# Altium schematic symbol library 排针排座.SchLib: 343 symbols (part 2 of 2)
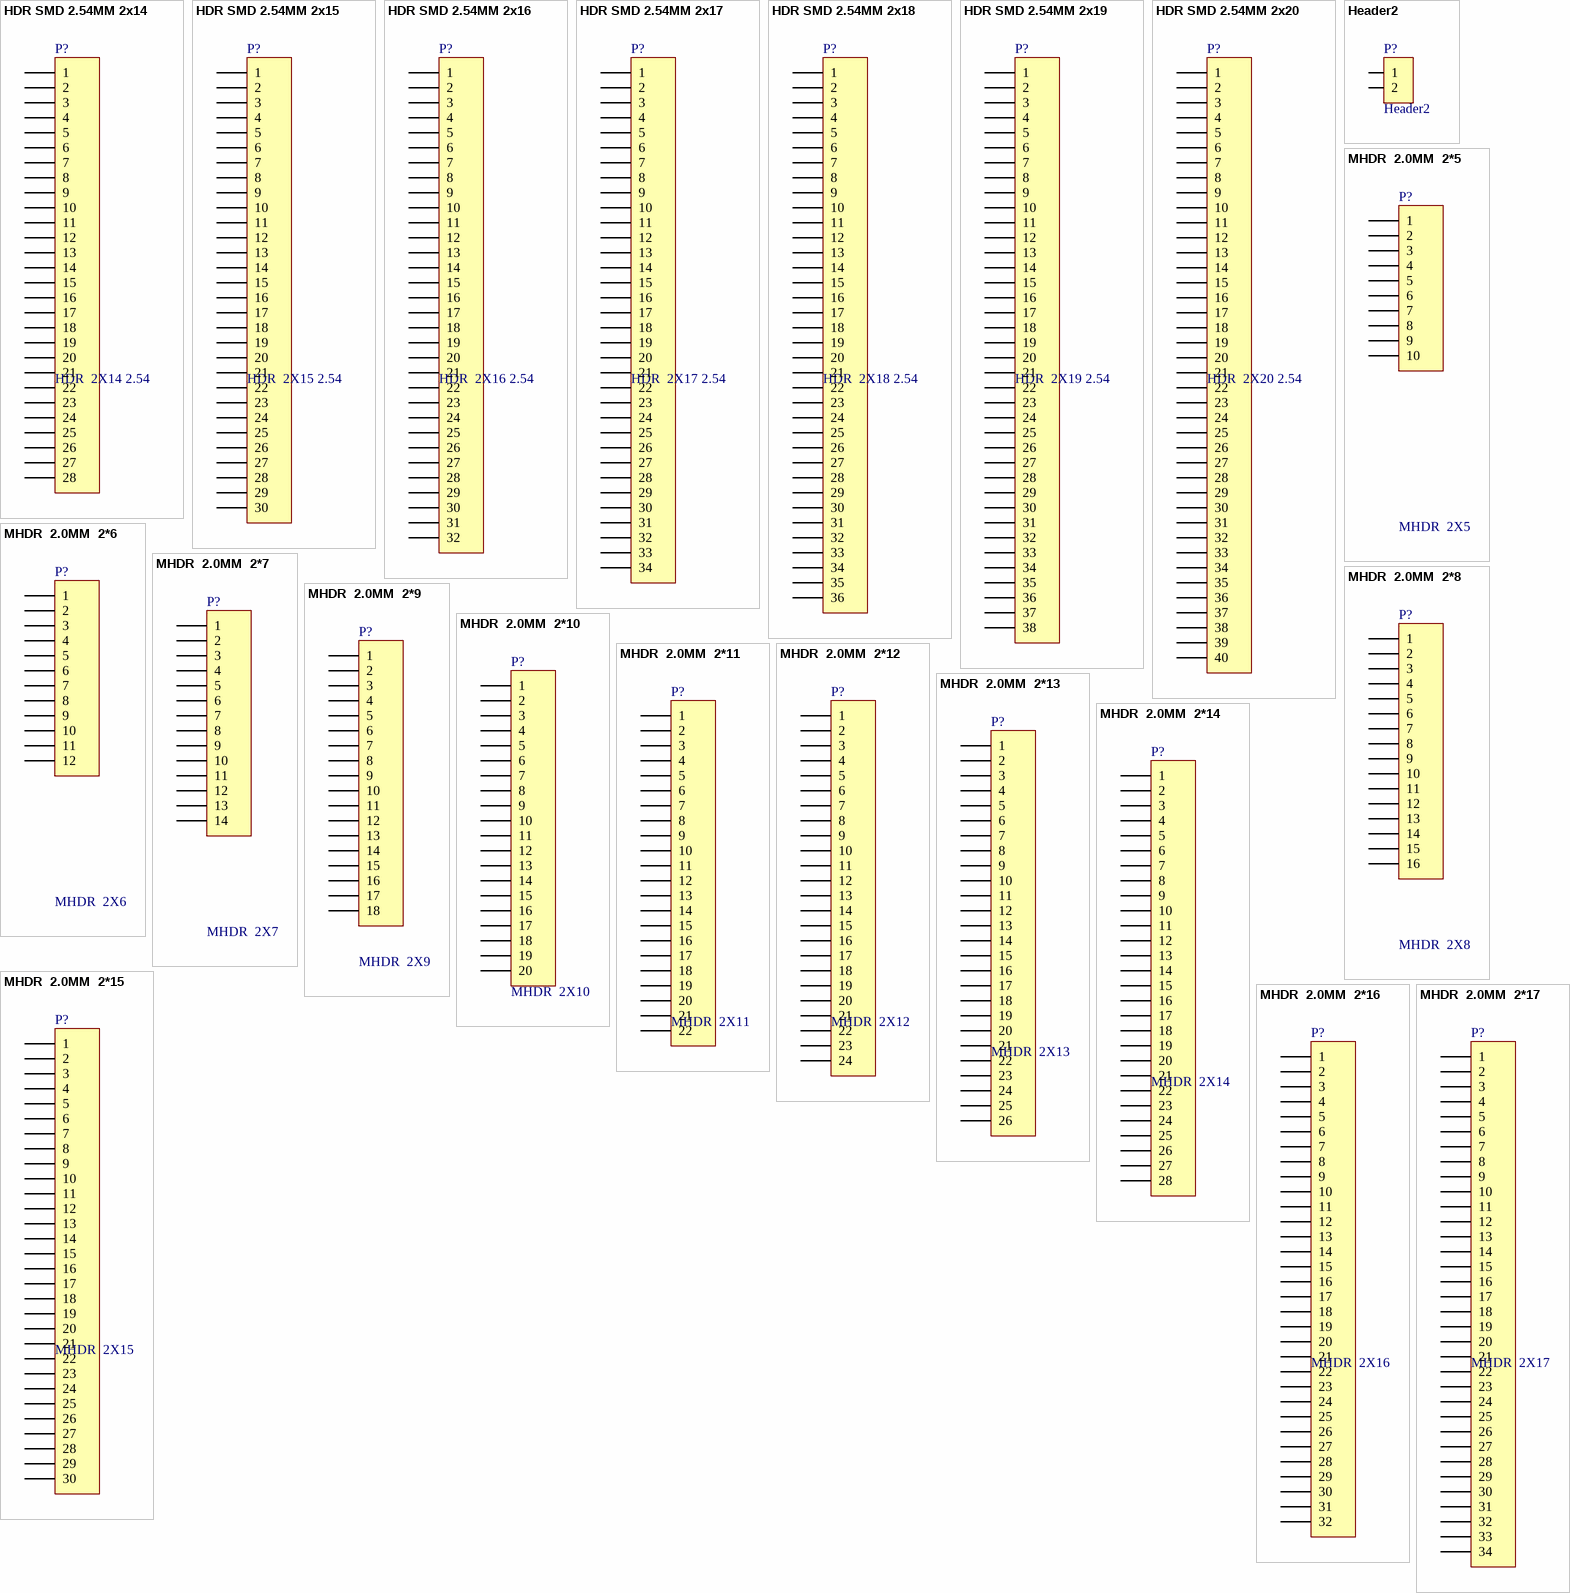
[diagram p14: symbols HDR SMD 2.54MM 2x14 to MHDR  2.0MM  2*17]

## HDR SMD 2.54MM 2x18
designator P?, comment HDR  2X18 2.54
HDR SMD 2.54MM 2x18; 仓库名称: 五金仓; 单位: 只; 加工方式: 贴片; 助记码: *; 备注: *; 物料代码: *; 物料名称: *; 规格型号: *
footprint HDR2.54 2x18-M-SMD (脚距：2.54mm，贴片双排母)
pins: 1, 2, 3, 4, 5, 6, 7, 8, 9, 10, 11, 12, 13, 14, 15, 16, 17, 18, 19, 20, 21, 22, 23, 24, 25, 26, 27, 28, 29, 30, 31, 32, 33, 34, 35, 36

## HDR SMD 2.54MM 2x19
designator P?, comment HDR  2X19 2.54
HDR SMD 2.54MM 2x19; 仓库名称: 五金仓; 单位: 只; 加工方式: 贴片; 助记码: *; 备注: *; 物料代码: *; 物料名称: *; 规格型号: *
footprint HDR2.54 2x19-M-SMD (脚距：2.54mm，贴片双排母)
pins: 1, 2, 3, 4, 5, 6, 7, 8, 9, 10, 11, 12, 13, 14, 15, 16, 17, 18, 19, 20, 21, 22, 23, 24, 25, 26, 27, 28, 29, 30, 31, 32, 33, 34, 35, 36, 37, 38

## HDR SMD 2.54MM 2x20
designator P?, comment HDR  2X20 2.54
HDR SMD 2.54MM 2x20; 仓库名称: 五金仓; 单位: 只; 加工方式: 贴片; 助记码: *; 备注: *; 物料代码: *; 物料名称: *; 规格型号: *
footprint HDR2.54 2x20-M-SMD (脚距：2.54mm，贴片双排母)
pins: 1, 2, 3, 4, 5, 6, 7, 8, 9, 10, 11, 12, 13, 14, 15, 16, 17, 18, 19, 20, 21, 22, 23, 24, 25, 26, 27, 28, 29, 30, 31, 32, 33, 34, 35, 36, 37, 38, 39, 40

## Header2
designator P?
仓库名称: 五金仓; 助记码: *; 单位: *; 物料名称: *; 物料代码: *; 备注: *; 规格型号: *
footprint HEADER  2H (2 PIN     3.96MM)
pins: 1, 2

## MHDR  2.0MM  2*5
designator P?, comment MHDR  2X5
Header, 10-Pin  2.0MM; 仓库名称: 五金仓; 加工方式: 插件; 备注: *; 助记码: *; 单位: *; 规格型号: *; 物料代码: *; 物料名称: *
footprint MHDR  2.0MM  2*5 (10pins)
pins: 1, 2, 3, 4, 5, 6, 7, 8, 9, 10

## MHDR  2.0MM  2*6
designator P?, comment MHDR  2X6
Header, 12-Pin  2.0MM; 仓库名称: 五金仓; 加工方式: 插件; 规格型号: *; 备注: *; 单位: *; 助记码: *; 物料代码: *; 物料名称: *
footprint MHDR  2.0MM  2*6 (12pins)
pins: 1, 2, 3, 4, 5, 6, 7, 8, 9, 10, 11, 12

## MHDR  2.0MM  2*7
designator P?, comment MHDR  2X7
Header, 14-Pin  2.0MM; 仓库名称: 五金仓; 加工方式: 插件; 规格型号: *; 物料名称: *; 物料代码: *; 备注: *; 助记码: *; 单位: *
footprint MHDR  2.0MM  2*7 (14pins)
pins: 1, 2, 3, 4, 5, 6, 7, 8, 9, 10, 11, 12, 13, 14

## MHDR  2.0MM  2*8
designator P?, comment MHDR  2X8
Header, 16-Pin  2.0MM; 物料名称: w; 仓库名称: 五金仓; 加工方式: 插件; 单位: *; 助记码: *; 规格型号: *; 物料代码: *; 备注: *
footprint MHDR  2.0MM  2*8 (16pins)
pins: 1, 2, 3, 4, 5, 6, 7, 8, 9, 10, 11, 12, 13, 14, 15, 16

## MHDR  2.0MM  2*9
designator P?, comment MHDR  2X9
Header, 18-Pin  2.0MM; 仓库名称: 五金仓; 加工方式: 插件; 助记码: *; 单位: *; 备注: *; 规格型号: *; 物料代码: *; 物料名称: *
footprint MHDR  2.0MM  2*9 (18pins)
pins: 1, 2, 3, 4, 5, 6, 7, 8, 9, 10, 11, 12, 13, 14, 15, 16, 17, 18

## MHDR  2.0MM  2*10
designator P?, comment MHDR  2X10
Header, 20-Pin  2.0MM; 仓库名称: 五金仓; 加工方式: 插件; 助记码: *; 物料名称: *; 规格型号: *; 物料代码: *; 单位: *; 备注: *
footprint MHDR  2.0MM  2*10 (20pins)
pins: 1, 2, 3, 4, 5, 6, 7, 8, 9, 10, 11, 12, 13, 14, 15, 16, 17, 18, 19, 20

## MHDR  2.0MM  2*11
designator P?, comment MHDR  2X11
Header, 22-Pin  2.0MM; 仓库名称: 五金仓; 加工方式: 插件; 备注: *; 物料名称: *; 物料代码: *; 规格型号: *; 单位: *; 助记码: *
footprint MHDR  2.0MM  2*11
pins: 1, 2, 3, 4, 5, 6, 7, 8, 9, 10, 11, 12, 13, 14, 15, 16, 17, 18, 19, 20, 21, 22

## MHDR  2.0MM  2*12
designator P?, comment MHDR  2X12
Header, 24-Pin  2.0MM; 仓库名称: 五金仓; 加工方式: 插件; 物料名称: *; 助记码: *; 物料代码: *; 备注: *; 规格型号: *
footprint MHDR  2.0MM  2*12 (24pins)
pins: 1, 2, 3, 4, 5, 6, 7, 8, 9, 10, 11, 12, 13, 14, 15, 16, 17, 18, 19, 20, 21, 22, 23, 24

## MHDR  2.0MM  2*13
designator P?, comment MHDR  2X13
Header, 26-Pin  2.0MM; 仓库名称: 五金仓; 加工方式: 插件; 物料代码: *; 备注: *; 单位: *; 物料名称: *; 助记码: *; 规格型号: *
footprint MHDR  2.0MM  2*13 (26pins)
pins: 1, 2, 3, 4, 5, 6, 7, 8, 9, 10, 11, 12, 13, 14, 15, 16, 17, 18, 19, 20, 21, 22, 23, 24, 25, 26

## MHDR  2.0MM  2*14
designator P?, comment MHDR  2X14
Header, 28-Pin  2.0MM; 仓库名称: 五金仓; 加工方式: 插件; 物料代码: *; 备注: *; 助记码: *; 规格型号: *; 单位: *; 物料名称: *
footprint MHDR  2.0MM  2*14 (28pins)
pins: 1, 2, 3, 4, 5, 6, 7, 8, 9, 10, 11, 12, 13, 14, 15, 16, 17, 18, 19, 20, 21, 22, 23, 24, 25, 26, 27, 28

## MHDR  2.0MM  2*15
designator P?, comment MHDR  2X15
Header, 30-Pin  2.0MM; 仓库名称: 五金仓; 加工方式: 插件; 物料代码: *; 助记码: *; 备注: *; 物料名称: *; 单位: *; 规格型号: *
footprint MHDR  2.0MM  2*15 (30pins)
pins: 1, 2, 3, 4, 5, 6, 7, 8, 9, 10, 11, 12, 13, 14, 15, 16, 17, 18, 19, 20, 21, 22, 23, 24, 25, 26, 27, 28, 29, 30

## MHDR  2.0MM  2*16
designator P?, comment MHDR  2X16
Header, 32-Pin  2.0MM; 仓库名称: 五金仓; 加工方式: 插件; 助记码: *; 备注: *; 物料代码: *; 单位: *; 物料名称: *; 规格型号: *
footprint MHDR  2.0MM  2*16 (32pins)
pins: 1, 2, 3, 4, 5, 6, 7, 8, 9, 10, 11, 12, 13, 14, 15, 16, 17, 18, 19, 20, 21, 22, 23, 24, 25, 26, 27, 28, 29, 30, 31, 32

## MHDR  2.0MM  2*17
designator P?, comment MHDR  2X17
Header, 34-Pin  2.0MM; 仓库名称: 五金仓; 加工方式: 插件; 物料代码: *; 规格型号: *; 单位: *; 助记码: *; 备注: *; 物料名称: *
footprint MHDR  2.0MM  2*17 (34pins)
pins: 1, 2, 3, 4, 5, 6, 7, 8, 9, 10, 11, 12, 13, 14, 15, 16, 17, 18, 19, 20, 21, 22, 23, 24, 25, 26, 27, 28, 29, 30, 31, 32, 33, 34

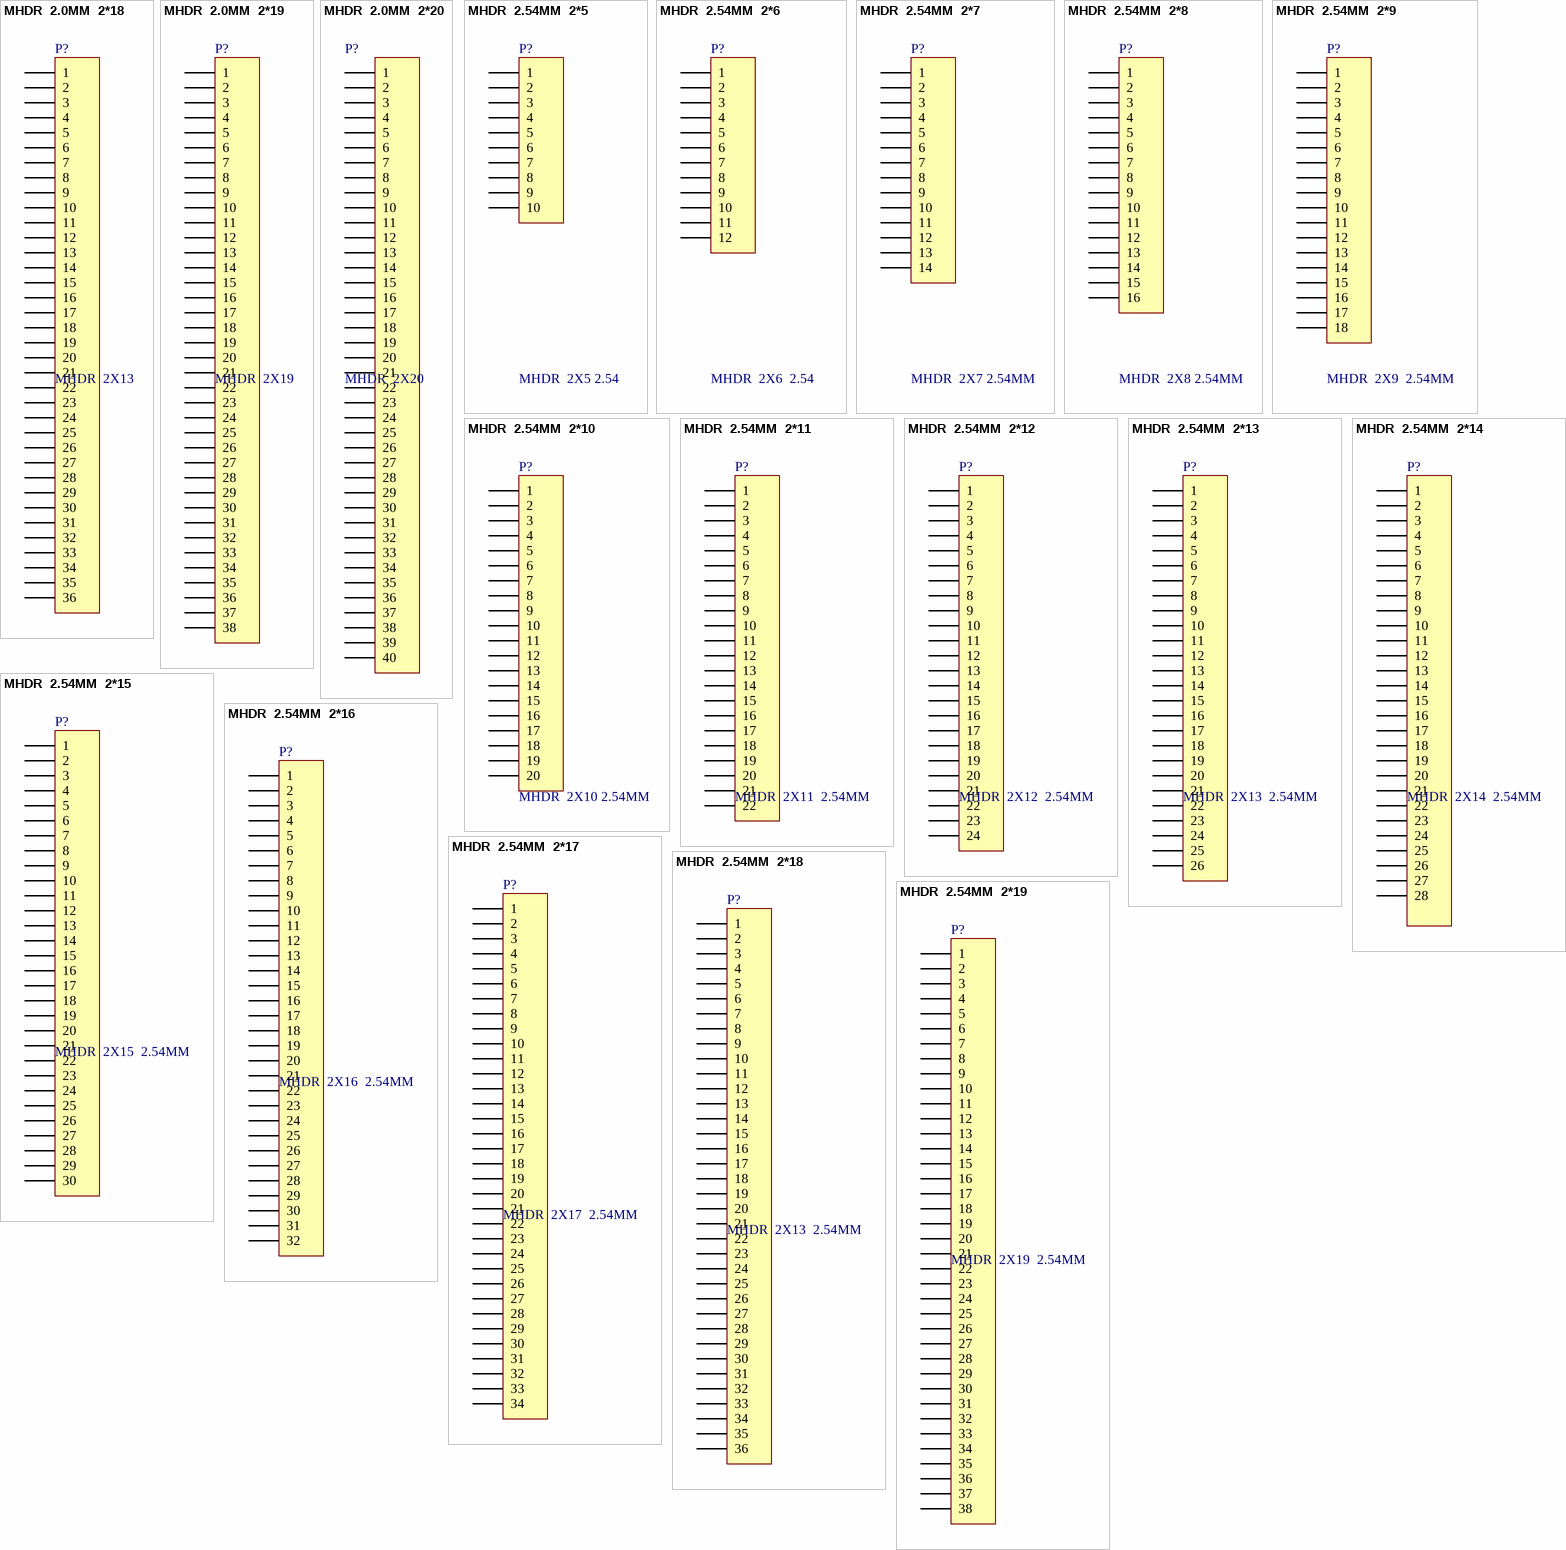
[diagram p10: symbols MHDR  2.0MM  2*18 to MHDR  2.54MM  2*19]

## MHDR  2.0MM  2*18
designator P?, comment MHDR  2X13
Header, 26-Pin  2.0MM; 仓库名称: 五金仓; 加工方式: 插件; 单位: *; 备注: *; 助记码: *; 物料名称: *; 物料代码: *; 规格型号: *
footprint MHDR  2.0MM  2*18 (36pins)
pins: 1, 2, 3, 4, 5, 6, 7, 8, 9, 10, 11, 12, 13, 14, 15, 16, 17, 18, 19, 20, 21, 22, 23, 24, 25, 26, 27, 28, 29, 30, 31, 32, 33, 34, 35, 36

## MHDR  2.0MM  2*19
designator P?, comment MHDR  2X19
Header, 38-Pin  2.0MM; 仓库名称: 五金仓; 加工方式: 插件; 物料代码: *; 助记码: *; 单位: *; 备注: *; 物料名称: *; 规格型号: *
footprint MHDR  2.0MM  2*19 (38pins)
pins: 1, 2, 3, 4, 5, 6, 7, 8, 9, 10, 11, 12, 13, 14, 15, 16, 17, 18, 19, 20, 21, 22, 23, 24, 25, 26, 27, 28, 29, 30, 31, 32, 33, 34, 35, 36, 37, 38

## MHDR  2.0MM  2*20
designator P?, comment MHDR  2X20
Header, 40-Pin  2.0MM; 仓库名称: 五金仓; 加工方式: 插件; 助记码: *; 单位: *; 备注: *; 物料代码: *; 物料名称: *; 规格型号: *
footprint MHDR  2.0MM  2*20 (40pins)
pins: 1, 2, 3, 4, 5, 6, 7, 8, 9, 10, 11, 12, 13, 14, 15, 16, 17, 18, 19, 20, 21, 22, 23, 24, 25, 26, 27, 28, 29, 30, 31, 32, 33, 34, 35, 36, 37, 38, 39, 40

## MHDR  2.54MM  2*5
designator P?, comment MHDR  2X5 2.54
Header, 10-Pin  2.54MM; 仓库名称: 五金仓; 加工方式: 插件; 助记码: *; 备注: *; 单位: *; 物料代码: *; 物料名称: *; 规格型号: *
footprint MHDR  2.0MM  2*5 (10pins)
pins: 1, 2, 3, 4, 5, 6, 7, 8, 9, 10

## MHDR  2.54MM  2*6
designator P?, comment MHDR  2X6  2.54
Header, 12-Pin  2.54MM; 仓库名称: 五金仓; 加工方式: 插件; 助记码: *; 单位: *; 备注: *; 物料名称: *; 规格型号: *; 物料代码: *
footprint MHDR  2.54MM  2*6 (12P)
pins: 1, 2, 3, 4, 5, 6, 7, 8, 9, 10, 11, 12

## MHDR  2.54MM  2*7
designator P?, comment MHDR  2X7 2.54MM
Header, 14-Pin  2.54MM; 仓库名称: 五金仓; 加工方式: 插件; 物料代码: *; 物料名称: *; 单位: *; 备注: *; 助记码: *; 规格型号: *
footprint MHDR  2.54MM  2*7 (14P)
pins: 1, 2, 3, 4, 5, 6, 7, 8, 9, 10, 11, 12, 13, 14

## MHDR  2.54MM  2*8
designator P?, comment MHDR  2X8 2.54MM
Header, 16-Pin  2.54MM; 仓库名称: 五金仓; 加工方式: 插件; 规格型号: *; 助记码: *; 物料名称: *; 物料代码: *; 备注: *; 单位: *
footprint MHDR  2.54MM  2*8 (16P)
pins: 1, 2, 3, 4, 5, 6, 7, 8, 9, 10, 11, 12, 13, 14, 15, 16

## MHDR  2.54MM  2*9
designator P?, comment MHDR  2X9  2.54MM
Header, 18-Pin  2.54MM; 仓库名称: 五金仓; 加工方式: 插件; 物料名称: *; 规格型号: *; 物料代码: *; 备注: *; 助记码: *; 单位: *
footprint MHDR  2.54MM  2*9 (18P)
pins: 1, 2, 3, 4, 5, 6, 7, 8, 9, 10, 11, 12, 13, 14, 15, 16, 17, 18

## MHDR  2.54MM  2*10
designator P?, comment MHDR  2X10 2.54MM
Header, 20-Pin  2.54MM; 仓库名称: 五金仓; 加工方式: 插件; 助记码: *; 单位: *; 备注: *; 物料代码: *; 物料名称: *; 规格型号: *
footprint MHDR  2.54MM  2*10 (20P)
pins: 1, 2, 3, 4, 5, 6, 7, 8, 9, 10, 11, 12, 13, 14, 15, 16, 17, 18, 19, 20

## MHDR  2.54MM  2*11
designator P?, comment MHDR  2X11  2.54MM
Header, 22-Pin  2.54MM; 仓库名称: 五金仓; 加工方式: 插件; 物料代码: *; 单位: *; 助记码: *; 规格型号: *; 物料名称: *; 备注: *
footprint MHDR  2.54MM  2*11 (22P)
pins: 1, 2, 3, 4, 5, 6, 7, 8, 9, 10, 11, 12, 13, 14, 15, 16, 17, 18, 19, 20, 21, 22

## MHDR  2.54MM  2*12
designator P?, comment MHDR  2X12  2.54MM
Header, 24-Pin  2.54MM; 仓库名称: 五金仓; 加工方式: 插件; 物料代码: *; 助记码: *; 备注: *; 单位: *; 物料名称: *; 规格型号: *
footprint MHDR  2.54MM  2*12 (24P)
pins: 1, 2, 3, 4, 5, 6, 7, 8, 9, 10, 11, 12, 13, 14, 15, 16, 17, 18, 19, 20, 21, 22, 23, 24

## MHDR  2.54MM  2*13
designator P?, comment MHDR  2X13  2.54MM
Header, 26-Pin  2.54MM; 仓库名称: 五金仓; 加工方式: 插件; 规格型号: *; 物料名称: *; 助记码: *; 物料代码: *; 备注: *; 单位: *
footprint MHDR  2.54MM  2*13 (26P)
pins: 1, 2, 3, 4, 5, 6, 7, 8, 9, 10, 11, 12, 13, 14, 15, 16, 17, 18, 19, 20, 21, 22, 23, 24, 25, 26

## MHDR  2.54MM  2*14
designator P?, comment MHDR  2X14  2.54MM
Header, 28-Pin  2.54MM; 仓库名称: 五金仓; 加工方式: 插件; 助记码: *; 备注: *; 单位: *; 物料代码: *; 物料名称: *; 规格型号: *
footprint MHDR  2.54MM  2*14 (28P)
pins: 1, 2, 3, 4, 5, 6, 7, 8, 9, 10, 11, 12, 13, 14, 15, 16, 17, 18, 19, 20, 21, 22, 23, 24, 25, 26, 27, 28

## MHDR  2.54MM  2*15
designator P?, comment MHDR  2X15  2.54MM
Header, 30-Pin  2.54MM; 仓库名称: 五金仓; 加工方式: 插件; 助记码: *; 物料名称: *; 备注: *; 单位: *; 物料代码: *; 规格型号: *
footprint MHDR  2.54MM  2*15 (30P)
pins: 1, 2, 3, 4, 5, 6, 7, 8, 9, 10, 11, 12, 13, 14, 15, 16, 17, 18, 19, 20, 21, 22, 23, 24, 25, 26, 27, 28, 29, 30

## MHDR  2.54MM  2*16
designator P?, comment MHDR  2X16  2.54MM
Header, 32-Pin  2.54MM; 仓库名称: 五金仓; 加工方式: 插件; 助记码: *; 物料名称: *; 单位: *; 物料代码: *; 备注: *; 规格型号: *
footprint MHDR  2.54MM  2*16 (32P)
pins: 1, 2, 3, 4, 5, 6, 7, 8, 9, 10, 11, 12, 13, 14, 15, 16, 17, 18, 19, 20, 21, 22, 23, 24, 25, 26, 27, 28, 29, 30, 31, 32

## MHDR  2.54MM  2*17
designator P?, comment MHDR  2X17  2.54MM
Header, 34-Pin  2.54MM; 仓库名称: 五金仓; 加工方式: 插件; 规格型号: *; 备注: *; 助记码: *; 单位: *; 物料代码: *; 物料名称: *
footprint MHDR  2.54MM  2*17 (34P)
pins: 1, 2, 3, 4, 5, 6, 7, 8, 9, 10, 11, 12, 13, 14, 15, 16, 17, 18, 19, 20, 21, 22, 23, 24, 25, 26, 27, 28, 29, 30, 31, 32, 33, 34

## MHDR  2.54MM  2*18
designator P?, comment MHDR  2X13  2.54MM
Header, 26-Pin  2.54MM; 仓库名称: 五金仓; 加工方式: 插件; 物料代码: *; 备注: *; 单位: *; 规格型号: *; 物料名称: *; 助记码: *
footprint MHDR  2.54MM  2*18 (36P)
pins: 1, 2, 3, 4, 5, 6, 7, 8, 9, 10, 11, 12, 13, 14, 15, 16, 17, 18, 19, 20, 21, 22, 23, 24, 25, 26, 27, 28, 29, 30, 31, 32, 33, 34, 35, 36

## MHDR  2.54MM  2*19
designator P?, comment MHDR  2X19  2.54MM
Header, 38-Pin  2.54MM; 仓库名称: 五金仓; 加工方式: 插件; 规格型号: *; 物料代码: *; 备注: *; 助记码: *; 物料名称: *
footprint MHDR  2.54MM  2*19 (38P)
pins: 1, 2, 3, 4, 5, 6, 7, 8, 9, 10, 11, 12, 13, 14, 15, 16, 17, 18, 19, 20, 21, 22, 23, 24, 25, 26, 27, 28, 29, 30, 31, 32, 33, 34, 35, 36, 37, 38

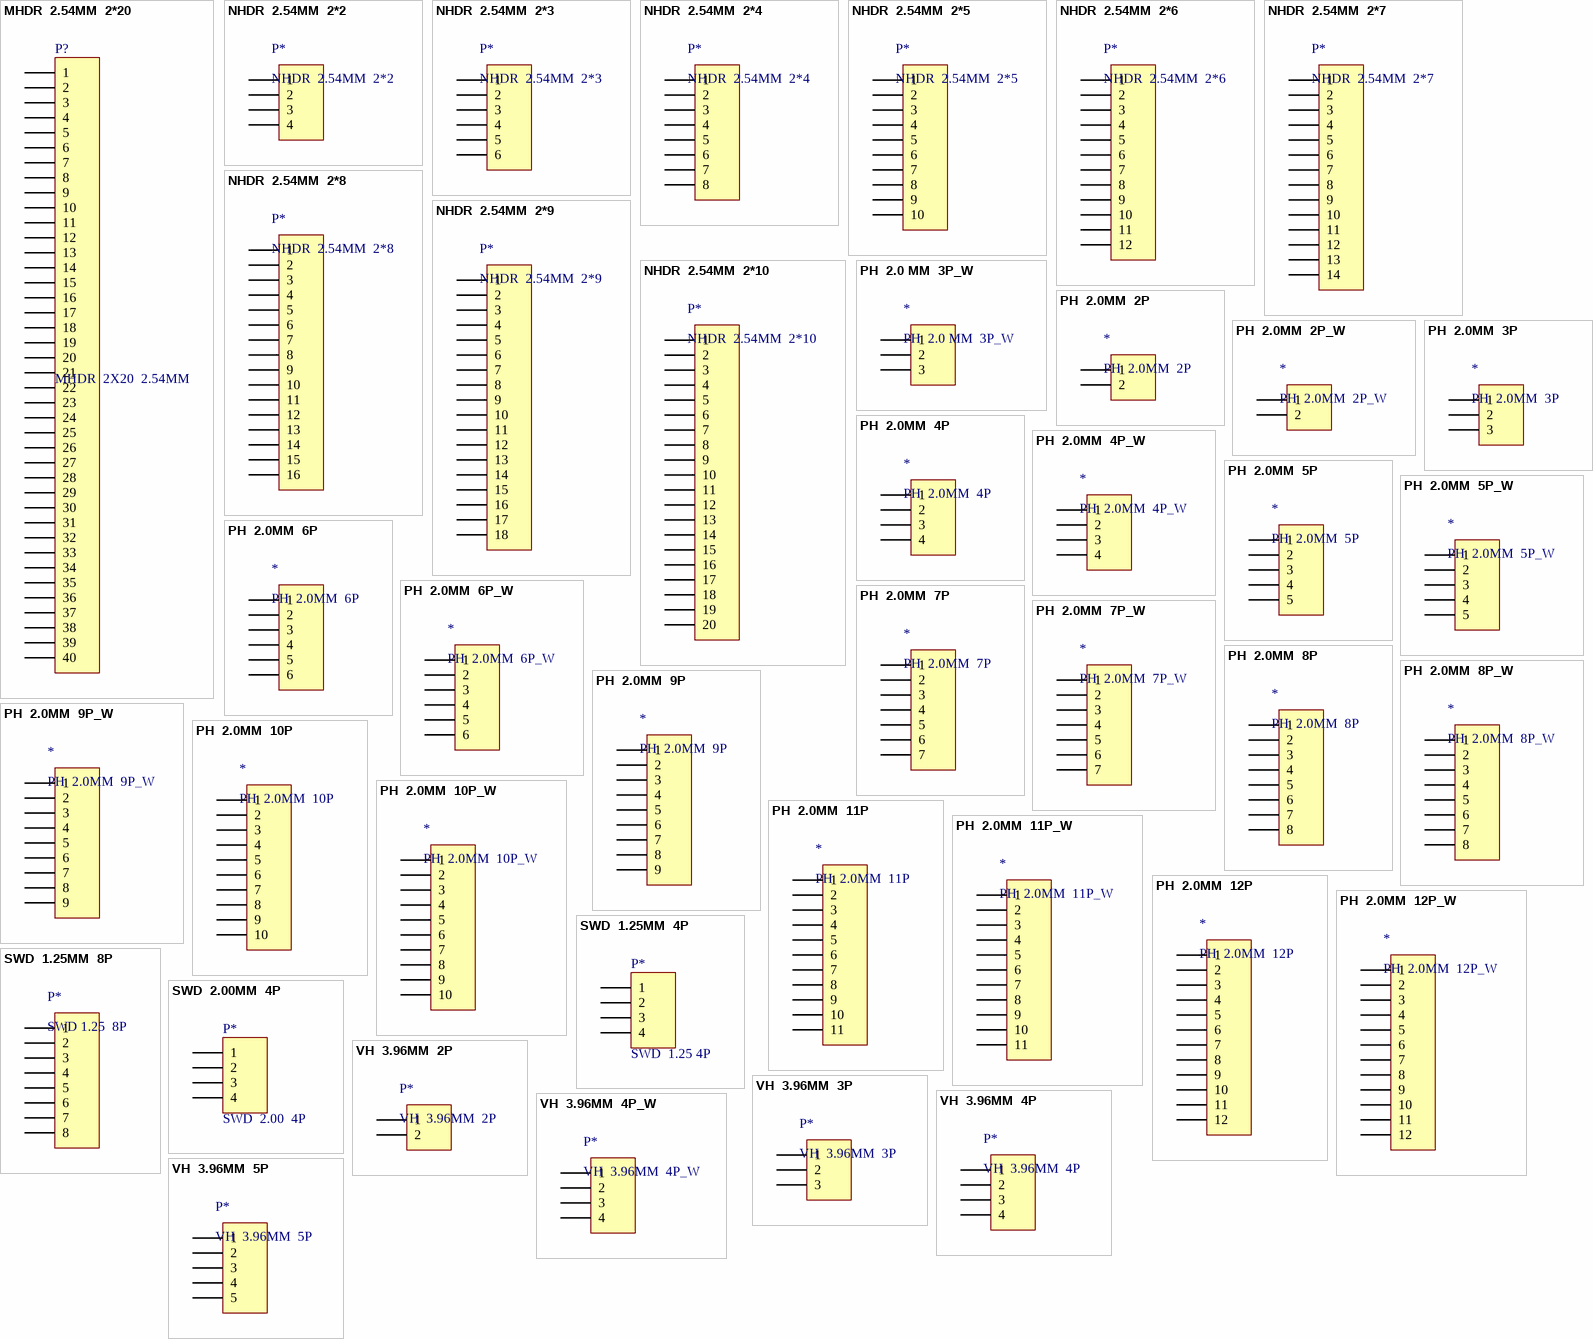
[diagram p11: symbols MHDR  2.54MM  2*20 to VH  3.96MM  5P]

## MHDR  2.54MM  2*20
designator P?, comment MHDR  2X20  2.54MM
Header, 40-Pin  2.54MM; 仓库名称: 五金仓; 加工方式: 插件; 物料代码: *; 物料名称: *; 单位: *; 备注: *; 规格型号: *; 助记码: *
footprint MHDR  2.54MM  2*20 (40P)
pins: 1, 2, 3, 4, 5, 6, 7, 8, 9, 10, 11, 12, 13, 14, 15, 16, 17, 18, 19, 20, 21, 22, 23, 24, 25, 26, 27, 28, 29, 30, 31, 32, 33, 34, 35, 36, 37, 38, 39, 40

## NHDR  2.54MM  2*2
designator P*
单位: 只; 加工方式: 插件; 仓库名称: 五金仓; 物料代码: *; 物料名称: *; 助记码: *; 规格型号: *; 备注: *
footprint NHDR  2.54MM  2*2 (脚距：2.54mm，直插双排母)
pins: 1, 2, 3, 4

## NHDR  2.54MM  2*3
designator P*
单位: 只; 加工方式: 插件; 仓库名称: 五金仓; 物料代码: *; 物料名称: *; 助记码: *; 规格型号: *; 备注: *
footprint NHDR  2.54MM  2*3 (脚距：2.54mm，直插双排母)
pins: 1, 2, 3, 4, 5, 6

## NHDR  2.54MM  2*4
designator P*
单位: 只; 加工方式: 插件; 仓库名称: 五金仓; 物料代码: *; 物料名称: *; 助记码: *; 规格型号: *; 备注: *
footprint NHDR  2.54MM  2*4 (脚距：2.54mm，直插双排母)
pins: 1, 2, 3, 4, 5, 6, 7, 8

## NHDR  2.54MM  2*5
designator P*
单位: 只; 加工方式: 插件; 仓库名称: 五金仓; 物料代码: *; 物料名称: *; 助记码: *; 规格型号: *; 备注: *
footprint NHDR  2.54MM  2*5 (脚距：2.54mm，直插双排母)
pins: 1, 2, 3, 4, 5, 6, 7, 8, 9, 10

## NHDR  2.54MM  2*6
designator P*
单位: 只; 加工方式: 插件; 仓库名称: 五金仓; 物料代码: *; 物料名称: *; 助记码: *; 规格型号: *; 备注: *
footprint NHDR  2.54MM  2*6 (脚距：2.54mm，直插双排母)
pins: 1, 2, 3, 4, 5, 6, 7, 8, 9, 10, 11, 12

## NHDR  2.54MM  2*7
designator P*
单位: 只; 加工方式: 插件; 仓库名称: 五金仓; 物料代码: *; 物料名称: *; 助记码: *; 规格型号: *; 备注: *
footprint NHDR  2.54MM  2*7 (脚距：2.54mm，直插双排母)
pins: 1, 2, 3, 4, 5, 6, 7, 8, 9, 10, 11, 12, 13, 14

## NHDR  2.54MM  2*8
designator P*
单位: 只; 加工方式: 插件; 仓库名称: 五金仓; 物料代码: *; 物料名称: *; 助记码: *; 规格型号: *; 备注: *
footprint NHDR  2.54MM  2*8 (脚距：2.54mm，直插双排母)
pins: 1, 2, 3, 4, 5, 6, 7, 8, 9, 10, 11, 12, 13, 14, 15, 16

## NHDR  2.54MM  2*9
designator P*
单位: 只; 加工方式: 插件; 仓库名称: 五金仓; 物料代码: *; 物料名称: *; 助记码: *; 规格型号: *; 备注: *
footprint NHDR  2.54MM  2*9 (脚距：2.54mm，直插双排母)
pins: 1, 2, 3, 4, 5, 6, 7, 8, 9, 10, 11, 12, 13, 14, 15, 16, 17, 18

## NHDR  2.54MM  2*10
designator P*
单位: 只; 加工方式: 插件; 仓库名称: 五金仓; 物料代码: *; 物料名称: *; 助记码: *; 规格型号: *; 备注: *
footprint NHDR  2.54MM  2*10 (脚距：2.54mm，直插双排母)
pins: 1, 2, 3, 4, 5, 6, 7, 8, 9, 10, 11, 12, 13, 14, 15, 16, 17, 18, 19, 20

## PH  2.0 MM  3P_W
designator *
仓库名称: 五金仓; 加工方式: 插件; 助记码: *; 备注: *; 单位: *; 物料名称: *; 物料代码: *; 规格型号: *
footprint PH2.0  3p_W (长：10mm，宽：7.6mm，高：5.5mm)
pins: 1, 2, 3

## PH  2.0MM  2P
designator *
仓库名称: 五金仓; 加工方式: 插件; 助记码: *; 物料名称: *; 规格型号: *; 物料代码: *; 备注: *; 单位: *
footprint PH2.0  2P (接插件/1A)
pins: 1, 2

## PH  2.0MM  2P_W
designator *
仓库名称: 五金仓; 加工方式: 插件; 规格型号: *; 助记码: *; 单位: *; 备注: *; 物料代码: *; 物料名称: *
footprint PH2.0  2P_W (长：8mm，宽：7.6mm，高：5.5mm)
pins: 1, 2

## PH  2.0MM  3P
designator *
仓库名称: 五金仓; 加工方式: 插件; 助记码: *; 单位: *; 备注: *; 物料代码: *; 物料名称: *; 规格型号: *
footprint PH2.0  3P (接插件/1A)
pins: 1, 2, 3

## PH  2.0MM  4P
designator *
仓库名称: 五金仓; 加工方式: 插件; 单位: *; 助记码: *; 备注: *; 物料代码: *; 物料名称: *; 规格型号: *
footprint PH2.0  4P (接插件/1A)
pins: 1, 2, 3, 4

## PH  2.0MM  4P_W
designator *
仓库名称: 五金仓; 加工方式: 插件; 助记码: *; 备注: *; 规格型号: *; 物料名称: *; 单位: *; 物料代码: *
footprint PH2.0  4P_W (长：12mm，宽：7.6mm，高：5.5mm)
pins: 1, 2, 3, 4

## PH  2.0MM  5P
designator *
仓库名称: 五金仓; 加工方式: 插件; 助记码: *; 单位: *; 备注: *; 物料代码: *; 物料名称: *; 规格型号: *
footprint PH2.0  5P (接插件/1A)
pins: 1, 2, 3, 4, 5

## PH  2.0MM  5P_W
designator *
仓库名称: 五金仓; 加工方式: 插件; 单位: *; 助记码: *; 备注: *; 物料代码: *; 物料名称: *; 规格型号: *
footprint PH2.0  5P_W (长：14mm，宽：7.6mm，高：5.5mm)
pins: 1, 2, 3, 4, 5

## PH  2.0MM  6P
designator *
仓库名称: 五金仓; 加工方式: 插件; 助记码: *; 单位: *; 备注: *; 物料代码: *; 物料名称: *; 规格型号: *
footprint PH2.0  6P (接插件/1A)
pins: 1, 2, 3, 4, 5, 6

## PH  2.0MM  6P_W
designator *
仓库名称: 五金仓; 加工方式: 插件; 助记码: *; 备注: *; 物料代码: *; 规格型号: *; 物料名称: *; 单位: *
footprint PH2.0  6P_W (长：16mm，宽：7.6mm，高：5.5mm)
pins: 1, 2, 3, 4, 5, 6

## PH  2.0MM  7P
designator *
仓库名称: 五金仓; 加工方式: 插件; 助记码: *; 单位: *; 备注: *; 物料代码: *; 物料名称: *; 规格型号: *
footprint PH2.0  7P (接插件/1A)
pins: 1, 2, 3, 4, 5, 6, 7

## PH  2.0MM  7P_W
designator *
仓库名称: 五金仓; 加工方式: 插件; 助记码: *; 单位: *; 备注: *; 物料代码: *; 物料名称: *; 规格型号: *
footprint PH2.0  7P_W (长：18mm，宽：7.6mm，高：5.5mm)
pins: 1, 2, 3, 4, 5, 6, 7

## PH  2.0MM  8P
designator *
PH-2.0 8P直针插座; 物料代码: 3.02.08.01.0062; 规格型号: PH-8A; 助记码: PH-2.0 8PZZCZ; 单位: 只; 仓库名称: 五金仓; 加工方式: 插件; 物料名称: PH-2.0 8P直针插座
footprint PH2.0  8P (接插件/1A)
pins: 1, 2, 3, 4, 5, 6, 7, 8

## PH  2.0MM  8P_W
designator *
仓库名称: 五金仓; 加工方式: 插件; 备注: *; 助记码: *; 单位: *; 物料代码: *; 物料名称: *; 规格型号: *
footprint PH2.0  8P_W (长：20mm，宽：7.6mm，高：5.5mm)
pins: 1, 2, 3, 4, 5, 6, 7, 8

## PH  2.0MM  9P
designator *
仓库名称: 五金仓; 加工方式: 插件; 助记码: *; 单位: *; 物料代码: *; 备注: *; 物料名称: *; 规格型号: *
footprint PH2.0  9P (接插件/1A)
pins: 1, 2, 3, 4, 5, 6, 7, 8, 9

## PH  2.0MM  9P_W
designator *
仓库名称: 五金仓; 加工方式: 插件; 物料名称: *; 规格型号: *; 备注: *; 物料代码: *; 单位: *
footprint PH2.0  9P_W (长：22mm，宽：7.6mm，高：5.5mm)
pins: 1, 2, 3, 4, 5, 6, 7, 8, 9

## PH  2.0MM  10P
designator *
仓库名称: 五金仓; 加工方式: 插件; 物料名称: *; 规格型号: *; 物料代码: *; 备注: *; 助记码: *; 单位: *
footprint PH2.0  10P (接插件/1A)
pins: 1, 2, 3, 4, 5, 6, 7, 8, 9, 10

## PH  2.0MM  10P_W
designator *
仓库名称: 五金仓; 加工方式: 插件; 物料代码: *; 备注: *; 规格型号: *; 物料名称: *; 助记码: *; 单位: *
footprint PH2.0  10P_W (长：24mm，宽：7.6mm，高：5.5mm)
pins: 1, 2, 3, 4, 5, 6, 7, 8, 9, 10

## PH  2.0MM  11P
designator *
仓库名称: 五金仓; 加工方式: 插件; 物料名称: *; 物料代码: *; 单位: *; 备注: *; 助记码: *; 规格型号: *
footprint PH2.0  11P (接插件/1A)
pins: 1, 2, 3, 4, 5, 6, 7, 8, 9, 10, 11

## PH  2.0MM  11P_W
designator *
仓库名称: 五金仓; 加工方式: 插件; 物料名称: *; 物料代码: *; 规格型号: *; 备注: *; 助记码: *
footprint PH2.0  11P_W (长：26mm，宽：7.6mm，高：5.5mm)
pins: 1, 2, 3, 4, 5, 6, 7, 8, 9, 10, 11

## PH  2.0MM  12P
designator *
仓库名称: 五金仓; 加工方式: 插件; 单位: *; 助记码: *; 备注: *; 物料代码: *; 物料名称: *; 规格型号: *
footprint PH2.0  12P (接插件/1A)
pins: 1, 2, 3, 4, 5, 6, 7, 8, 9, 10, 11, 12

## PH  2.0MM  12P_W
designator *
仓库名称: 五金仓; 加工方式: 插件; 助记码: *; 单位: *; 备注: *; 物料代码: *; 物料名称: *; 规格型号: *
footprint PH2.0  12P_W (长：28mm，宽：7.6mm，高：5.5mm)
pins: 1, 2, 3, 4, 5, 6, 7, 8, 9, 10, 11, 12

## SWD  1.25MM  4P
designator P*, comment SWD  1.25 4P
烧录口; 备注: 纯焊盘; 加工方式: 插件; 物料名称: 烧录口
footprint SWD  1.25mm  4P
pins: 1, 2, 3, 4

## SWD  1.25MM  8P
designator P*, comment SWD 1.25  8P
烧录口; 备注: 纯焊盘; 加工方式: 插件; 物料名称: 烧录口
footprint SWD  1.25mm  8P
pins: 1, 2, 3, 4, 5, 6, 7, 8

## SWD  2.00MM  4P
designator P*, comment SWD  2.00  4P
烧录口; 备注: 纯焊盘; 加工方式: 插件; 物料名称: 烧录口
footprint SWD  2.0MM   4P (烧录口   2.0MM)
pins: 1, 2, 3, 4

## VH  3.96MM  2P
designator P*
3.96-2P直针插座; 物料代码: 3.02.08.01.0017; 助记码: 3.96-2PZZCZ; 单位: 个; 仓库名称: 五金仓; 加工方式: 插件; 物料名称: 3.96-2P直针插座; 规格型号: *
footprint VH3.96-2P (接插件，25V/5A)
pins: 1, 2

## VH  3.96MM  3P
designator P*
3.96-3P直针插座; 物料代码: 3.02.08.01.0018; 助记码: 3.96-3PZZCZ; 单位: 个; 仓库名称: 五金仓; 加工方式: 插件; 物料名称: 3.96-3P直针插座; 规格型号: *
footprint VH3.96-3P (接插件，25V/5A)
pins: 1, 2, 3

## VH  3.96MM  4P
designator P*
3.96-4P直针插座; 物料代码: 3.02.08.01.0028; 助记码: 3.96-4PZZCZ; 单位: 个; 仓库名称: 五金仓; 加工方式: 插件; 物料名称: 3.96-4P直针插座; 规格型号: *
footprint VH3.96-4P (接插件，25V/5A)
pins: 1, 2, 3, 4

## VH  3.96MM  4P_W
designator P*
VH3.96  4P_W; 仓库名称: 五金仓; 加工方式: 插件; 规格型号: *; 单位: *; 备注: *; 物料代码: *; 助记码: *; 物料名称: *
footprint VH3.96-4P_W (接插件，25V/5A)
pins: 1, 2, 3, 4

## VH  3.96MM  5P
designator P*
3.96-5P直针插座; 物料代码: 3.02.08.01.0019; 助记码: 3.96-5PZZCZ; 单位: 个; 仓库名称: 五金仓; 加工方式: 插件; 物料名称: 3.96-5P直针插座; 规格型号: *
footprint VH3.96-5P (接插件，25V/5A)
pins: 1, 2, 3, 4, 5

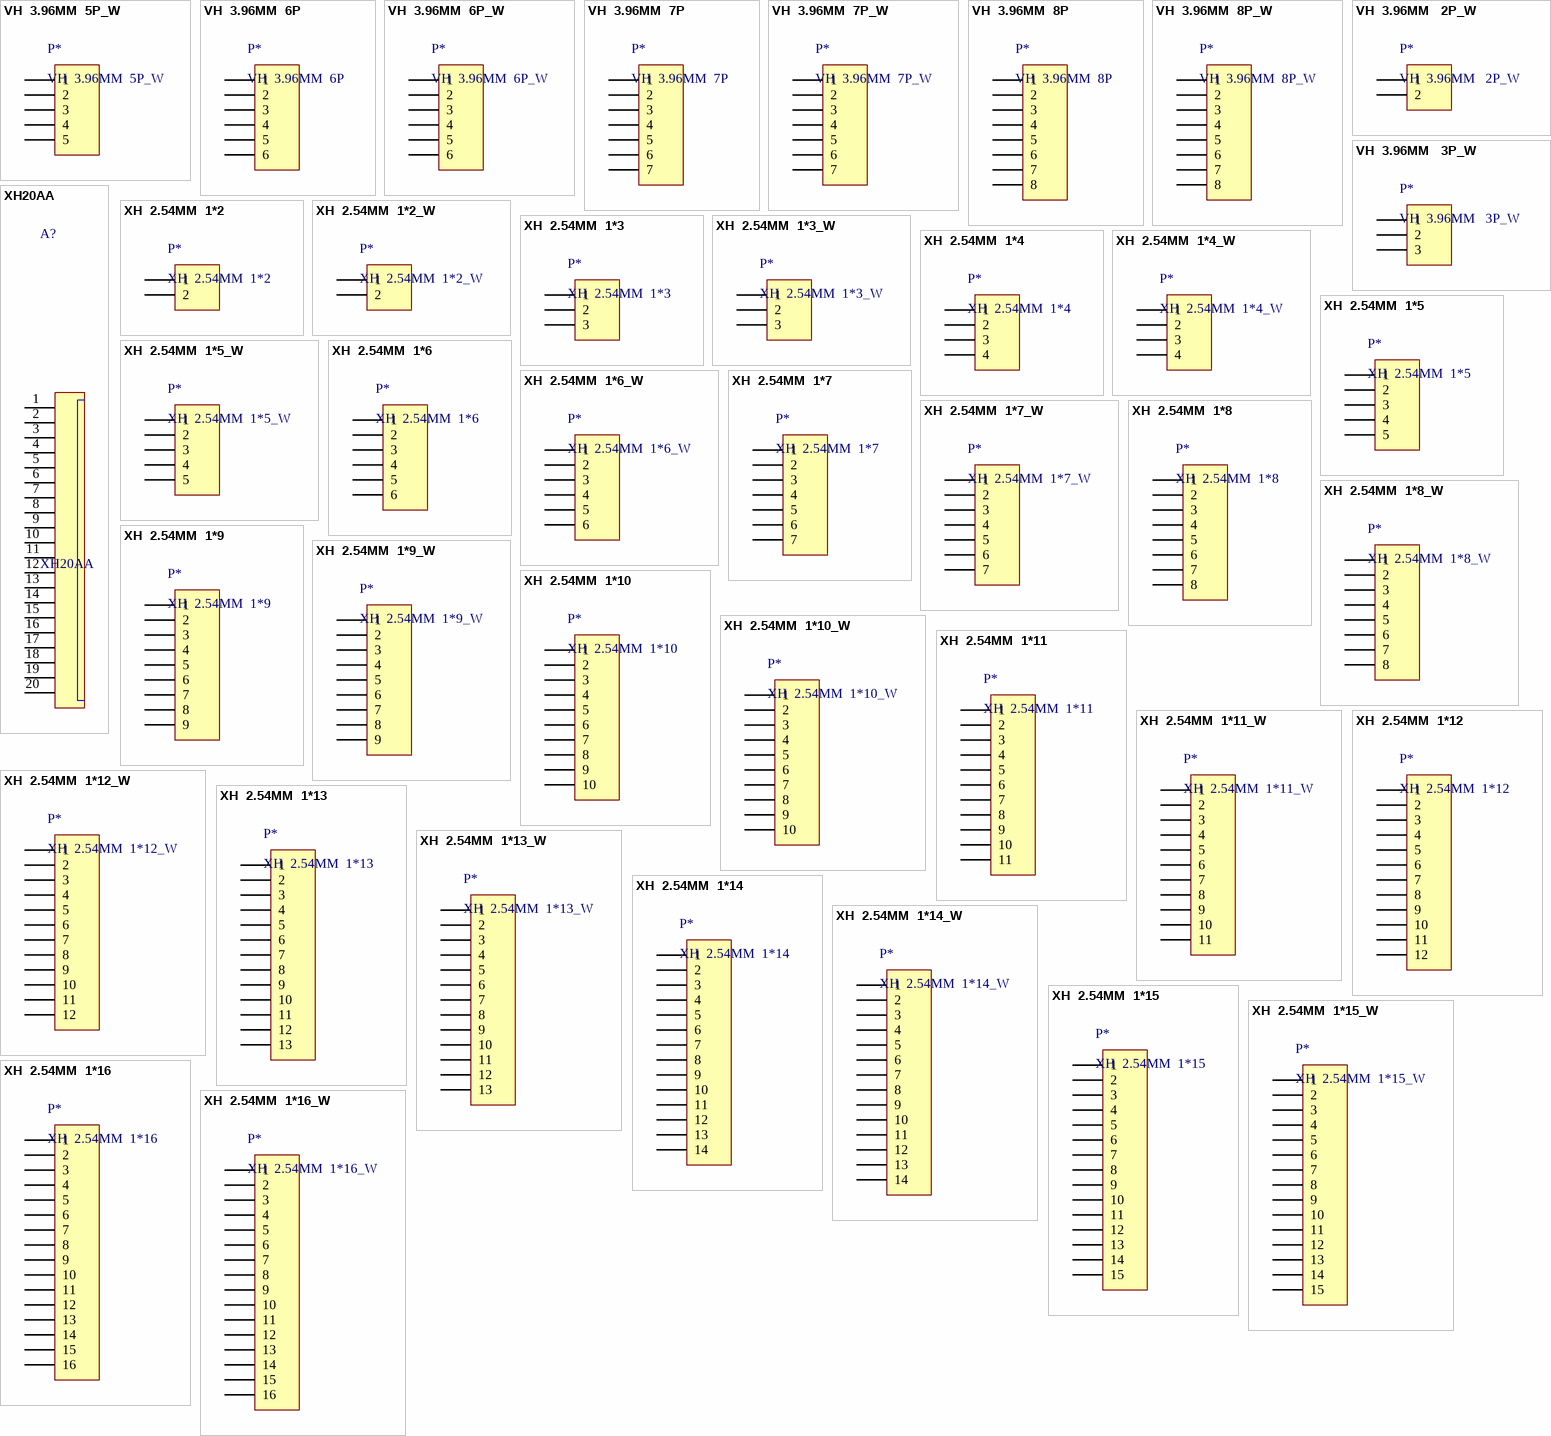
[diagram p12: symbols VH  3.96MM  5P_W to XH  2.54MM  1*16_W]

## VH  3.96MM  5P_W
designator P*
VH3.96  5P_W; 仓库名称: 五金仓; 加工方式: 插件; 规格型号: *; 物料名称: *; 助记码: *; 单位: *; 备注: *; 物料代码: *
footprint VH3.96-5P_W (接插件，25V/5A)
pins: 1, 2, 3, 4, 5

## VH  3.96MM  6P
designator P*
3.96-6P直针插座; 物料代码: 3.02.08.01.0010; 助记码: 3.96-6PZZCZ; 单位: 个; 仓库名称: 五金仓; 加工方式: 插件; 物料名称: 3.96-6P直针插座; 规格型号: *
footprint VH3.96-6P (接插件，25V/5A)
pins: 1, 2, 3, 4, 5, 6

## VH  3.96MM  6P_W
designator P*
VH3.96  6P_W; 仓库名称: 五金仓; 加工方式: 插件; 规格型号: *; 物料名称: *; 助记码: *; 单位: *; 备注: *; 物料代码: *
footprint VH3.96-6P_W (接插件，25V/5A)
pins: 1, 2, 3, 4, 5, 6

## VH  3.96MM  7P
designator P*
3.96-7P直针插座; 物料代码: 3.02.08.01.0020; 助记码: 3.96-7PZZCZ; 单位: 个; 仓库名称: 五金仓; 加工方式: 插件; 物料名称: 3.96-7P直针插座; 规格型号: *
footprint VH3.96-7P (接插件，25V/5A)
pins: 1, 2, 3, 4, 5, 6, 7

## VH  3.96MM  7P_W
designator P*
VH3.96  7P_W; 仓库名称: 五金仓; 加工方式: 插件; 规格型号: *; 物料名称: *; 助记码: *; 单位: *; 备注: *; 物料代码: *
footprint VH3.96-7P_W (接插件，25V/5A)
pins: 1, 2, 3, 4, 5, 6, 7

## VH  3.96MM  8P
designator P*
3.96-8P直针插座; 物料代码: 3.02.08.01.0021; 助记码: 3.96-8PZZCZ; 单位: 个; 仓库名称: 五金仓; 加工方式: 插件; 物料名称: 3.96-8P直针插座; 规格型号: *
footprint VH3.96-8P (接插件，25V/5A)
pins: 1, 2, 3, 4, 5, 6, 7, 8

## VH  3.96MM  8P_W
designator P*
VH3.96  8P_W; 仓库名称: 五金仓; 加工方式: 插件; 规格型号: *; 物料名称: *; 助记码: *; 单位: *; 备注: *; 物料代码: *
footprint VH3.96-8P_W (接插件，25V/5A)
pins: 1, 2, 3, 4, 5, 6, 7, 8

## VH  3.96MM   2P_W
designator P*
VH3.96  2P_W; 仓库名称: 五金仓; 加工方式: 插件; 助记码: *; 规格型号: *; 备注: *; 单位: *; 物料代码: *; 物料名称: *
footprint VH3.96-2P_W (接插件，25V/5A)
pins: 1, 2

## VH  3.96MM   3P_W
designator P*
VH3.96  3P_W; 仓库名称: 五金仓; 加工方式: 插件; 规格型号: *; 助记码: *; 单位: *; 备注: *; 物料代码: *; 物料名称: *
footprint VH3.96-3P_W (接插件，25V/5A)
pins: 1, 2, 3

## XH20AA
designator A?
20位双排插座无; 仓库名称: 五金仓; 助记码: *; 物料代码: *; 物料名称: *; 规格型号: *; 单位: *; 备注: *; 加工方式: *
footprint XH20(简牛角 SMT)
pins: 1, 2, 3 1, 4 2, 5 1, 6 2, 7 1, 8 2, 9 1, 10 2, 11 1, 12 2, 13 1, 14 2, 15 1, 16 2, 17 1, 18 2, 19 1, 20 2

## XH  2.54MM  1*2
designator P*
XH-2.54 2P直针插座; 物料代码: 3.02.08.01.0014; 助记码: XH-2.54 2PZZCZ; 单位: 个; 仓库名称: 五金仓; 加工方式: 插件; 物料名称: XH-2.54 2P直针插座; 规格型号: *
footprint XH2.54-2P (接插件，2P)
pins: 1, 2

## XH  2.54MM  1*2_W
designator P*
XH2.54  2pin_W; 仓库名称: 五金仓; 加工方式: 插件; 规格型号: *; 物料代码: *; 物料名称: *; 助记码: *; 备注: *; 单位: *
footprint XH2.54-2P_W (接插件，2P)
pins: 1, 2

## XH  2.54MM  1*3
designator P*
XH-2.54 3P直针插座; 物料代码: 3.02.08.01.0022; 助记码: XH-2.54 3PZZCZ; 仓库名称: 五金仓; 单位: 个; 加工方式: 插件; 物料名称: XH-2.54 3P直针插座; 规格型号: 3.02.08.01.0022
footprint XH2.54-3P (接插件，3P)
pins: 1, 2, 3

## XH  2.54MM  1*3_W
designator P*
XH-2.54 3P弯针插座; 物料代码: 3.02.08.01.0050; 助记码: XH-2.54 3PWZCZ; 仓库名称: 五金仓; 单位: 只; 加工方式: 插件; 物料名称: XH-2.54 3P弯针插座
footprint XH2.54-3P_W (接插件，3P)
pins: 1, 2, 3

## XH  2.54MM  1*4
designator P*
XH-2.54 4P直针插座; 物料代码: 3.02.08.01.0023; 助记码: XH-2.54 4PZZCZ; 单位: 个; 仓库名称: 五金仓; 加工方式: 插件; 物料名称: XH-2.54 4P直针插座
footprint XH2.54-4P (接插件，4P)
pins: 1, 2, 3, 4

## XH  2.54MM  1*4_W
designator P*
XH2.54  4pin_W; 仓库名称: 五金仓; 加工方式: 插件; 单位: *; 物料代码: *; 物料名称: *; 备注: *; 规格型号: *; 助记码: *
footprint XH2.54-4P_W (接插件，4P)
pins: 1, 2, 3, 4

## XH  2.54MM  1*5
designator P*
XH-2.54 5P直针插座; 物料代码: 3.02.08.01.0024; 助记码: XH-2.54 5PZZCZ; 仓库名称: 五金仓; 单位: 个; 加工方式: 插件; 物料名称: XH-2.54 5P直针插座
footprint XH2.54-5P (接插件，5P)
pins: 1, 2, 3, 4, 5

## XH  2.54MM  1*5_W
designator P*
XH2.54  5pin_W; 仓库名称: 五金仓; 加工方式: 插件; 助记码: *; 单位: *; 备注: *; 物料代码: *; 物料名称: *; 规格型号: *
footprint XH2.54-5P_W (接插件，5P)
pins: 1, 2, 3, 4, 5

## XH  2.54MM  1*6
designator P*
XH2.54  6pin; 仓库名称: 五金仓; 加工方式: 插件; 助记码: *; 单位: *; 备注: *; 物料代码: *; 物料名称: *; 规格型号: *
footprint XH2.54-6P (接插件，6P)
pins: 1, 2, 3, 4, 5, 6

## XH  2.54MM  1*6_W
designator P*
XH-2.54 6P弯针插座; 物料代码: 3.02.08.01.0053; 助记码: XH-2.54 6PWZCZ; 单位: 只; 仓库名称: 五金仓; 加工方式: 插件; 物料名称: XH-2.54 6P弯针插座; 规格型号: *
footprint XH2.54-6P_W (接插件，6P)
pins: 1, 2, 3, 4, 5, 6

## XH  2.54MM  1*7
designator P*
XH-2.54 7P直针插座; 物料代码: 3.02.08.01.0029; 助记码: XH-2.54 7PZZCZ; 单位: 个; 仓库名称: 五金仓; 加工方式: 插件; 物料名称: XH-2.54 7P直针插座; 规格型号: *
footprint XH2.54-7P (接插件，7P)
pins: 1, 2, 3, 4, 5, 6, 7

## XH  2.54MM  1*7_W
designator P*
XH2.54  1*7_W; 仓库名称: 五金仓; 加工方式: 插件; 助记码: *; 备注: *; 单位: *; 物料代码: *; 物料名称: *; 规格型号: *
footprint XH2.54-7P_W (接插件，7P)
pins: 1, 2, 3, 4, 5, 6, 7

## XH  2.54MM  1*8
designator P*
XH-2.54 8P直针插座; 物料代码: 3.02.08.01.0030; 助记码: XH-2.54 8PZZCZ; 单位: 个; 仓库名称: 五金仓; 加工方式: 插件; 物料名称: XH-2.54 8P直针插座
footprint XH2.54-8P (接插件，8P)
pins: 1, 2, 3, 4, 5, 6, 7, 8

## XH  2.54MM  1*8_W
designator P*
XH2.54  1*8_W; 仓库名称: 五金仓; 加工方式: 插件; 助记码: *; 备注: *; 单位: *; 物料代码: *; 物料名称: *; 规格型号: *
footprint XH2.54-8P_W (接插件，8P)
pins: 1, 2, 3, 4, 5, 6, 7, 8

## XH  2.54MM  1*9
designator P*
XH-2.54 9P直针插座; 物料代码: 3.02.08.01.0045; 助记码: XH-2.54 9PZZCZ; 单位: 个; 仓库名称: 五金仓; 加工方式: 插件; 物料名称: XH-2.54 9P直针插座; 规格型号: *
footprint XH2.54-9P (接插件，9P)
pins: 1, 2, 3, 4, 5, 6, 7, 8, 9

## XH  2.54MM  1*9_W
designator P*
XH2.54  1*9_W; 仓库名称: 五金仓; 加工方式: 插件; 规格型号: *; 物料名称: *; 备注: *; 助记码: *; 物料代码: *; 单位: *
footprint XH2.54-9P_W (接插件，9P)
pins: 1, 2, 3, 4, 5, 6, 7, 8, 9

## XH  2.54MM  1*10
designator P*
XH-2.54 10P直针插座; 物料代码: 3.02.08.01.0046; 助记码: XH-2.54 10PZZCZ; 单位: 个; 仓库名称: 五金仓; 加工方式: 插件; 物料名称: XH-2.54 10P直针插座; 规格型号: *
footprint XH2.54-10P (接插件，10P)
pins: 1, 2, 3, 4, 5, 6, 7, 8, 9, 10

## XH  2.54MM  1*10_W
designator P*
XH2.54  1*10_W; 仓库名称: 五金仓; 加工方式: 插件; 助记码: *; 单位: *; 备注: *; 物料代码: *; 物料名称: *; 规格型号: *
footprint XH2.54-10P_W (接插件，10P)
pins: 1, 2, 3, 4, 5, 6, 7, 8, 9, 10

## XH  2.54MM  1*11
designator P*
XH2.54  11pin; 仓库名称: 五金仓; 加工方式: 插件; 物料名称: *; 规格型号: *; 助记码: *; 备注: *; 单位: *; 物料代码: *
footprint XH2.54-11P (接插件，11P)
pins: 1, 2, 3, 4, 5, 6, 7, 8, 9, 10, 11

## XH  2.54MM  1*11_W
designator P*
XH2.54  11pin_W; 仓库名称: 五金仓; 加工方式: 插件; 物料代码: *; 助记码: *; 单位: *; 备注: *; 规格型号: *; 物料名称: *
footprint XH2.54-11P_W (接插件，11P)
pins: 1, 2, 3, 4, 5, 6, 7, 8, 9, 10, 11

## XH  2.54MM  1*12
designator P*
XH2.54  12pin; 仓库名称: 五金仓; 加工方式: 插件; 物料名称: *; 规格型号: *; 物料代码: *; 备注: *; 助记码: *; 单位: *
footprint XH2.54-12P (接插件，12P)
pins: 1, 2, 3, 4, 5, 6, 7, 8, 9, 10, 11, 12

## XH  2.54MM  1*12_W
designator P*
XH2.54  12pin_W; 仓库名称: 五金仓; 加工方式: 插件; 备注: *; 单位: *; 物料代码: *; 物料名称: *; 规格型号: *; 助记码: *
footprint XH2.54-12P_W (接插件，12P)
pins: 1, 2, 3, 4, 5, 6, 7, 8, 9, 10, 11, 12

## XH  2.54MM  1*13
designator P*
XH2.54  13pin; 仓库名称: 五金仓; 加工方式: 插件; 物料名称: *; 规格型号: *; 物料代码: *; 备注: *; 助记码: *; 单位: *
footprint XH2.54-13P (接插件，13P)
pins: 1, 2, 3, 4, 5, 6, 7, 8, 9, 10, 11, 12, 13

## XH  2.54MM  1*13_W
designator P*
XH2.54  13pin_W; 仓库名称: 五金仓; 加工方式: 插件; 备注: *; 单位: *; 物料代码: *; 物料名称: *; 规格型号: *; 助记码: *
footprint XH2.54-13P_W (接插件，13P)
pins: 1, 2, 3, 4, 5, 6, 7, 8, 9, 10, 11, 12, 13

## XH  2.54MM  1*14
designator P*
XH2.54  14pin; 仓库名称: 五金仓; 加工方式: 插件; 物料名称: *; 规格型号: *; 物料代码: *; 备注: *; 助记码: *; 单位: *
footprint XH2.54-14P (接插件，14P)
pins: 1, 2, 3, 4, 5, 6, 7, 8, 9, 10, 11, 12, 13, 14

## XH  2.54MM  1*14_W
designator P*
XH2.54  14pin_W; 仓库名称: 五金仓; 加工方式: 插件; 备注: *; 单位: *; 物料代码: *; 物料名称: *; 规格型号: *; 助记码: *
footprint XH2.54-14P_W (接插件，14P)
pins: 1, 2, 3, 4, 5, 6, 7, 8, 9, 10, 11, 12, 13, 14

## XH  2.54MM  1*15
designator P*
XH2.54  15pin; 仓库名称: 五金仓; 加工方式: 插件; 物料名称: *; 规格型号: *; 物料代码: *; 备注: *; 助记码: *; 单位: *
footprint XH2.54-15P (接插件，15P)
pins: 1, 2, 3, 4, 5, 6, 7, 8, 9, 10, 11, 12, 13, 14, 15

## XH  2.54MM  1*15_W
designator P*
XH2.54  15pin_W; 仓库名称: 五金仓; 加工方式: 插件; 备注: *; 单位: *; 物料代码: *; 物料名称: *; 规格型号: *; 助记码: *
footprint XH2.54-15P_W (接插件，15P)
pins: 1, 2, 3, 4, 5, 6, 7, 8, 9, 10, 11, 12, 13, 14, 15

## XH  2.54MM  1*16
designator P*
XH2.54  16pin; 仓库名称: 五金仓; 加工方式: 插件; 物料名称: *; 规格型号: *; 物料代码: *; 备注: *; 助记码: *; 单位: *
footprint XH2.54-16P (接插件，16P)
pins: 1, 2, 3, 4, 5, 6, 7, 8, 9, 10, 11, 12, 13, 14, 15, 16

## XH  2.54MM  1*16_W
designator P*
XH2.54  16pin_W; 仓库名称: 五金仓; 加工方式: 插件; 备注: *; 单位: *; 物料代码: *; 物料名称: *; 规格型号: *; 助记码: *
footprint XH2.54-16P_W (接插件，16P)
pins: 1, 2, 3, 4, 5, 6, 7, 8, 9, 10, 11, 12, 13, 14, 15, 16

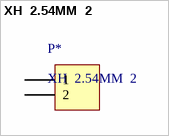
[diagram p13: symbol XH  2.54MM  2]

## XH  2.54MM  2
designator P*
XH2.54  2pin   手机唛用无; 仓库名称: 五金仓; 备注: 纯焊盘; 加工方式: 插件; 物料代码: *; 助记码: *; 单位: *; 物料名称: *; 规格型号: *
footprint XH2A(2.54mm) (手机唛扬声器接口)
pins: 1, 2